# EAGLE library part 8PIN (library connector)
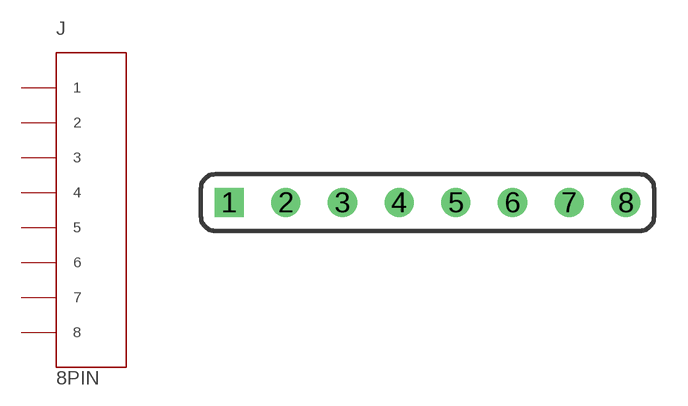
[diagram p11: symbol with the pads of 8PIN; footprint 8PIN]

Designator prefix J

## 8PIN  [8PIN]
1  1
2  2
3  3
4  4
5  5
6  6
7  7
8  8

## Footprint 8PIN (pad centres in mm)
drill 0.8 square: 1 0,0
drill 0.8: 2 2.54,0; 3 5.08,0; 4 7.62,0; 5 10.16,0; 6 12.7,0; 7 15.24,0; 8 17.78,0